# Altium footprint library Relay_TE_Connectivity_V23079A1001B301_eec_Recommended_Land_Pattern .PcbLib: 1 footprints
Each footprint in its own frame and in the unit in brackets; x right, y up, seen from the top. Pads: shape width x height; smd on the part's side, far side on the other; paste and mask are expansions set on the pad; w line width, h text height; cw(c..) or ccw(c..) is an arc to the next point about the centre after c.
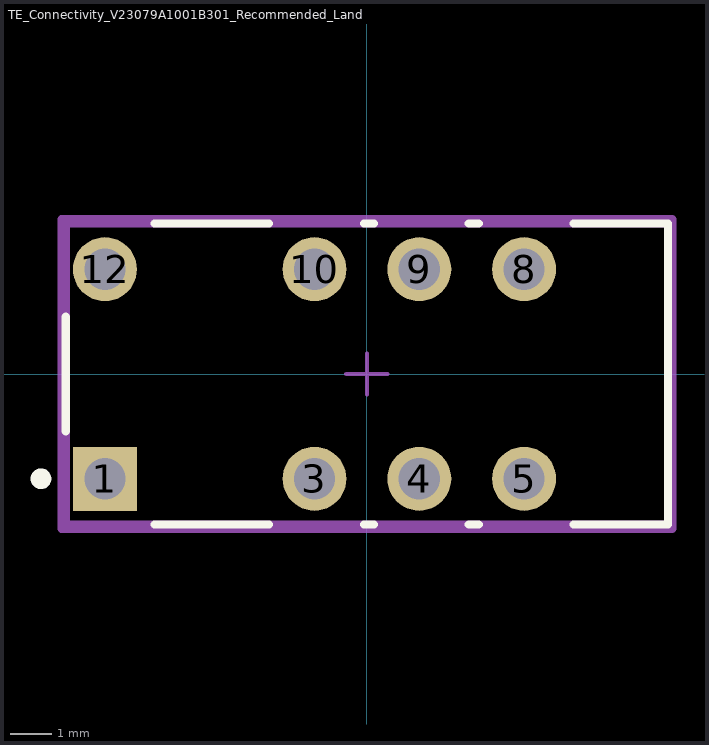
[diagram p0: the footprint, top view; thin cyan lines are the x and y axes]

## TE_Connectivity_V23079A1001B301_Recommended_Land_Pattern [mm]
pads (8):
  rect 1.55x1.55 hole 1 paste-1000 mask+0: 1(-6.35,-2.54)
  round 1.55 hole 1 paste-1000 mask+0: 3(-1.27,-2.54) 4(1.27,-2.54) 5(3.81,-2.54) 8(3.81,2.54) 9(1.27,2.54) 10(-1.27,2.54) 12(-6.35,2.54)
Top Overlay:
  circle w0.25: c-7.9,-2.54 r0.125
  lines w0.2: -7.3,-1.39 -7.3,1.39 ; -5.15,-3.65 -2.37,-3.65 ; -5.15,3.65 -2.37,3.65 ; -0.07,-3.65 0.17,-3.65 ; -0.07,3.65 0.17,3.65 ; 2.47,-3.65 2.71,-3.65 ; 2.47,3.65 2.71,3.65 ; 5.01,-3.65 7.3,-3.65 7.3,3.65 5.01,3.65
Mechanical 10:
  lines w0.2: -7.4,-3.75 7.4,-3.75 7.4,3.75 -7.4,3.75 -7.4,-3.75
  text ".Designator" at 0,0 h1
Mechanical 12:
  lines w0.2: -7.3,-3.65 7.3,-3.65 7.3,3.65 -7.3,3.65 -7.3,-3.65
Mechanical 15:
  lines w0.1: -0.5,0 0.5,0 ; 0,-0.5 0,0.5
  lines w0.2: -7.4,-3.75 7.4,-3.75 7.4,3.75 -7.4,3.75 -7.4,-3.75
3D body "Relay_TE_Connectivity_V23079A1001B301_eec.STEP": height 0.25, standoff 0, extent -7.4,-3.75 7.4,3.75